# EAGLE library part 634108150321 (library InputOutputIO (rev18b))
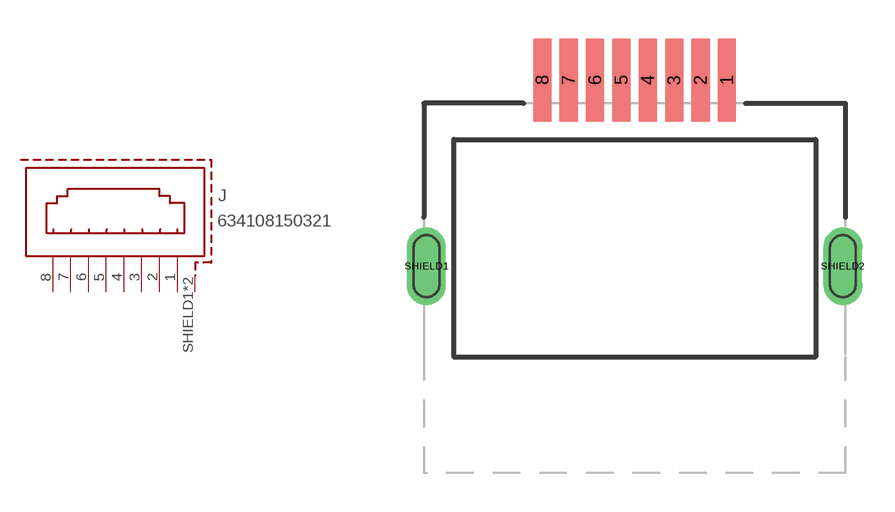
[diagram p182: symbol with the pads of 634108150321; footprint 634108150321]

Designator prefix J

## 634108150321  [634108150321]
1  1  pas
2  2  pas
3  3  pas
4  4  pas
5  5  pas
6  6  pas
7  7  pas
8  8  pas
SHIELD1  SHIELD  pas
SHIELD2  SHIELD  pas

## Footprint 634108150321 (pad centres in mm)
smd 0.7 x 3.2: 1 3.57,7.2; 2 2.55,7.2; 3 1.53,7.2; 4 0.51,7.2; 5 -0.51,7.2; 6 -1.53,7.2; 7 -2.55,7.2; 8 -3.57,7.2
drill 1 long: SHIELD1 -8.05,0; SHIELD2 8.05,0